# Altium schematic symbol library RES,2R,1%,0.75W,2010.Schlib: 1 symbol
Pins are listed as number, name and electrical type; pins without a type are passive.

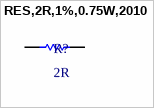
[diagram p0: symbol RES,2R,1%,0.75W,2010]

## RES,2R,1%,0.75W,2010
designator R?, comment 2R
2 Ohms ±5% 0.75W, 3/4W Chip Resistor 2010 (5025 Metric) Automotive AEC-Q200 Thick Film
pins: 1, 2